# Altium schematic symbol library conn4.SchLib: 1 symbol
Pins are listed as number, name and electrical type; pins without a type are passive.

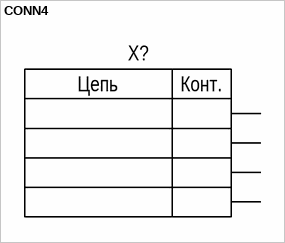
[diagram p0: symbol CONN4]

## CONN4
designator X?
pins: 1, 2, 3, 4
text: Цепь; Конт.